# Altium footprint library VRB_LD-30WR3.PcbLib: 1 footprints
Each footprint in its own frame and in the unit in brackets; x right, y up, seen from the top. Pads: shape width x height; smd on the part's side, far side on the other; paste and mask are expansions set on the pad; w line width, h text height; cw(c..) or ccw(c..) is an arc to the next point about the centre after c.
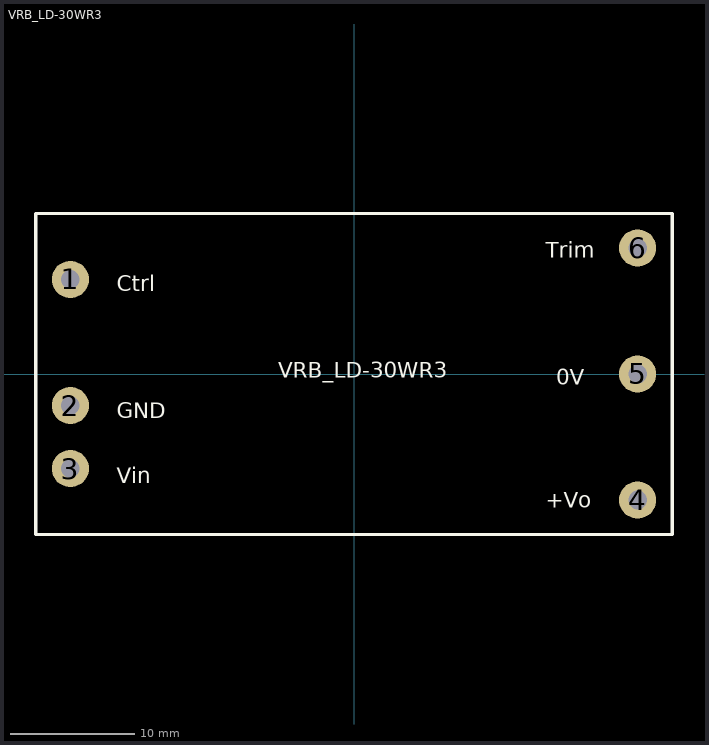
[diagram p0: the footprint, top view; thin cyan lines are the x and y axes]

## VRB_LD-30WR3 [mm]
pads (6):
  round 3 hole 1.5: 1(-22.86,7.62) 2(-22.86,-2.54) 3(-22.86,-7.62) 4(22.86,-10.16) 5(22.86,0) 6(22.86,10.16)
Top Overlay:
  lines w0.254: -25.65,-12.95 25.65,-12.95 25.65,12.95 -25.65,12.95 -25.65,-12.95
  text "Vin" at -19.145,-8.821 h1.27
  text "GND" at -19.145,-3.572 h1.27
  text "Ctrl" at -19.145,6.688 h1.27
  text "Trim" at 15.454,9.376 h1.27
  text "0V" at 16.32,-0.884 h1.27
  text "+Vo" at 15.469,-10.766 h1.27
  text "VRB_LD-30WR3" at -6.118,-0.309 h1.27
3D body: height 12.3, standoff -3.5, extent -25.426,-12.726 25.474,12.774